# EAGLE library part TLV3501AIDBVR (library Elektronik_lib)
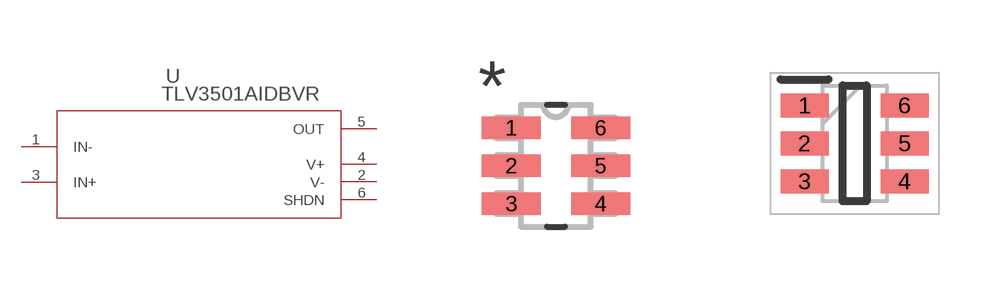
[diagram p10: symbol with the pads of DBV6; footprints DBV6, SOT95P280X145-6N]

Designator prefix U

## TLV3501AIDBVRDBV6 (COPYRIGHT: Copyright (C) 2023 Ultra Librarian. All rights reserved.; MANUFACTURER_PART_NUMBER: TLV3501AIDBVR; MFR_NAME: Texas Instruments)  [DBV6]
1  IN-  in
2  V-  pwr
3  IN+  in
4  V+  pwr
5  OUT  out
6  SHDN  pas

## TLV3501AIDBVR  [SOT95P280X145-6N]

## Footprint DBV6 (pad centres in mm)
smd 1.473 x 0.559: 1 -1.118,0.95; 2 -1.118,0; 3 -1.118,-0.95; 4 1.118,-0.95; 5 1.118,0; 6 1.118,0.95

## Footprint SOT95P280X145-6N (pad centres in mm)
DBV0006A
smd 1.2 x 0.6: 1 -1.25,0.95; 2 -1.25,0; 3 -1.25,-0.95; 4 1.25,-0.95; 5 1.25,0; 6 1.25,0.95